# EAGLE library part PINHEAD_PINHD-1X6 (library mini_digitboard)
PIN HEADER
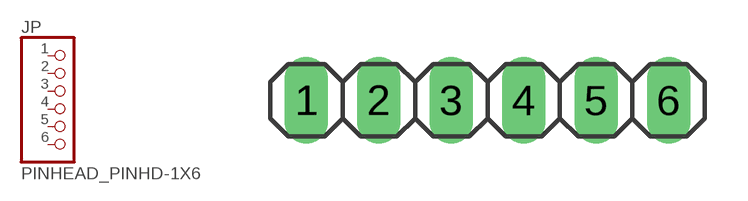
[diagram p1: symbol with the pads of PINHEAD_1X06; footprint PINHEAD_1X06]

Designator prefix JP

## PINHEAD_PINHD-1X6  [PINHEAD_1X06]
1  1  pas
2  2  pas
3  3  pas
4  4  pas
5  5  pas
6  6  pas

## Footprint PINHEAD_1X06 (pad centres in mm)
PIN HEADER
drill 1.016 long: 1 -6.35,0; 2 -3.81,0; 3 -1.27,0; 4 1.27,0; 5 3.81,0; 6 6.35,0